# Altium schematic symbol library EC12D1524403.SchLib: 1 symbol
Pins are listed as number, name and electrical type; pins without a type are passive.

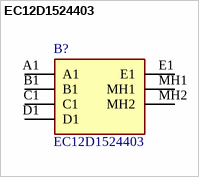
[diagram p0: symbol EC12D1524403]

## EC12D1524403
designator B?
17,5mm Vertical encoder 15 Pulses 30 DET; Manufacturer_Name: ALPS Electric; Geometry.Height: 17.5mm; Mouser Part Number: 688-EC12D1524403; Mouser Price/Stock: https://www.mouser.co.uk/ProductDetail/Alps-Alpine/EC12D1524403?qs=6EGMNY9ZYDSnlYGJrjCewg%3D%3D; Manufacturer_Part_Number: EC12D1524403; Datasheet Link: https://www.alps.com/prod/info/E/HTML/Encoder/Incremental/EC12E/EC12D1524403.html
footprint EC12D1524403
pins: A1, B1, C1, D1, E1, MH1, MH2